# Altium footprint library PCB - CRYSTALS - MURATA XRCGB.PCBLIB: 1 footprints
Each footprint in its own frame and in the unit in brackets; x right, y up, seen from the top. Pads: shape width x height; smd on the part's side, far side on the other; paste and mask are expansions set on the pad; w line width, h text height; cw(c..) or ccw(c..) is an arc to the next point about the centre after c.
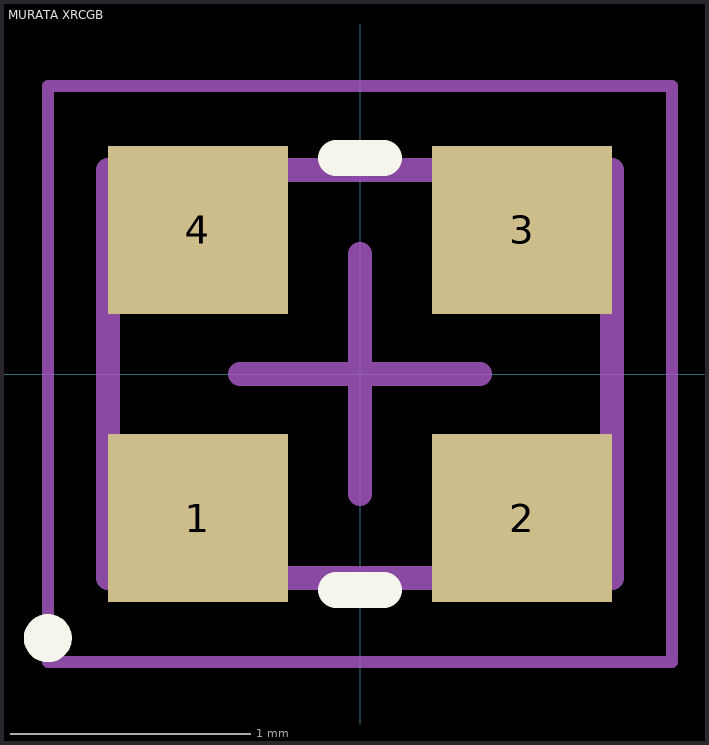
[diagram p0: the footprint, top view; thin cyan lines are the x and y axes]

## MURATA XRCGB [mm] "Crystal, 4-Leads, Body 1.60x2.00mm, Pitch 1.40mm, IPC Medium Density"
height 0.7
pads (4):
  rect 0.75x0.7 smd: 1(-0.675,-0.6) 2(0.675,-0.6) 3(0.675,0.6) 4(-0.675,0.6)
Top Overlay:
  circle w0.1: c-1.3,-1.1 r0.05
  lines w0.15: -0.1,-0.9 0.1,-0.9 ; -0.1,0.9 0.1,0.9
Mechanical 13:
  lines w0.1: -1.05,-0.85 1.05,-0.85 1.05,0.85 -1.05,0.85 -1.05,-0.85
Mechanical 15:
  lines w0.05: -1.3,-1.2 1.3,-1.2 1.3,1.2 -1.3,1.2 -1.3,-1.2
  lines w0.1: -0.5,0 0.5,0 ; 0,-0.5 0,0.5
3D body "MURATA XRCGB_F_M.step": height 0.65, standoff 0, extent -1,-0.8 1,0.8